# Altium footprint library SUSUMU_KRL2012.PcbLib: 1 footprints
Each footprint in its own frame and in the unit in brackets; x right, y up, seen from the top. Pads: shape width x height; smd on the part's side, far side on the other; paste and mask are expansions set on the pad; w line width, h text height; cw(c..) or ccw(c..) is an arc to the next point about the centre after c.
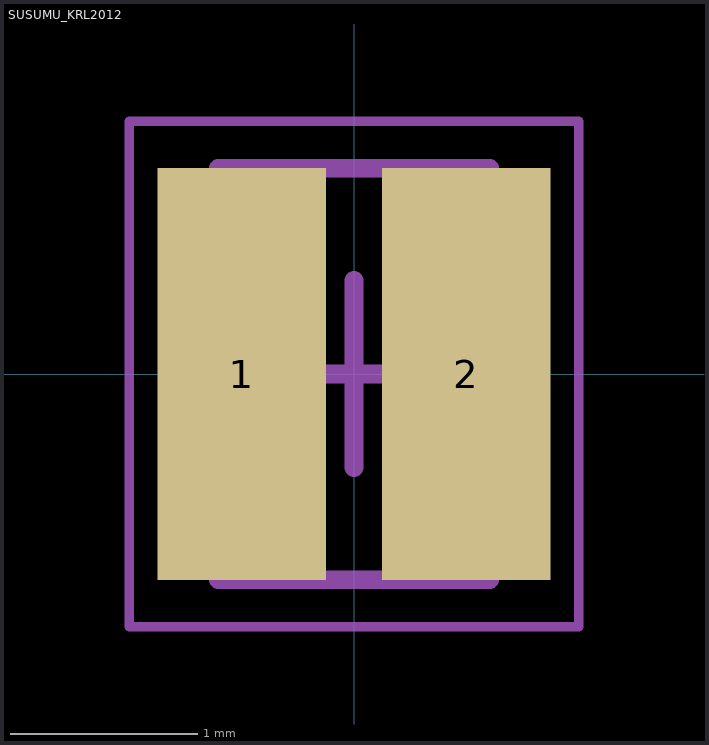
[diagram p0: the footprint, top view; thin cyan lines are the x and y axes]

## SUSUMU_KRL2012 [mm]
height 0.7
pads (2):
  rect 0.9x2.2 smd: 1(-0.6,0) 2(0.6,0)
Mechanical 13:
  lines w0.1: -0.725,-1.1 0.725,-1.1 0.725,1.1 -0.725,1.1 -0.725,-1.1
Mechanical 15:
  lines w0.05: -1.2,-1.35 1.2,-1.35 1.2,1.35 -1.2,1.35 -1.2,-1.35
  lines w0.1: -0.5,0 0.5,0 ; 0,-0.5 0,0.5
3D body: height 0.7, standoff 0, extent 0.175,-1.1 0.725,1.1
3D body: height 0.7, standoff 0, extent -0.725,-1.1 -0.175,1.1
3D body: height 0.7, standoff 0, extent -0.175,-1.1 0.175,1.1